# Altium integrated library CP2102N-A02-GQFN28.IntLib: 1 symbol
Pins are listed as number, name and electrical type; pins without a type are passive.

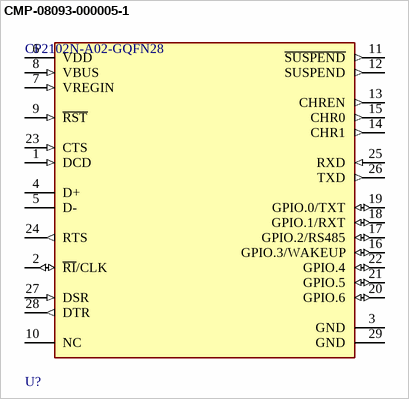
[diagram p0: symbol CMP-08093-000005-1]

## CMP-08093-000005-1
designator U?, comment CP2102N-A02-GQFN28
IC USB TO UART BRIDGE QFN28
footprint FP-CP2102N-A02-GQFN28-IPC_B
footprint FP-CP2102N-A02-GQFN28-IPC_C
footprint FP-CP2102N-A02-GQFN28-IPC_A
footprint FP-CP2102N-A02-GQFN28-MFG
pins: 1 DCD (in), 2 ~{RI}/CLK (io), 3 GND (power), 4 D+, 5 D-, 6 VDD (power), 7 VREGIN (in), 8 VBUS (in), 9 ~{RST} (in), 10 NC, 11 ~{SUSPEND} (out), 12 SUSPEND (out), 13 CHREN (out), 14 CHR1 (out), 15 CHR0 (out), 16 GPIO.3/WAKEUP (io), 17 GPIO.2/RS485 (io), 18 GPIO.1/RXT (io), 19 GPIO.0/TXT (io), 20 GPIO.6 (io), 21 GPIO.5 (io), 22 GPIO.4 (io), 23 CTS (in), 24 RTS (out), 25 RXD (in), 26 TXD (out), 27 DSR (in), 28 DTR (out), 29 GND (power)